# EAGLE library part TPS5450DDA (library powerboard)
5-A, WIDE INPUT RANGE, STEP-DOWN SWIFT CONVERTER
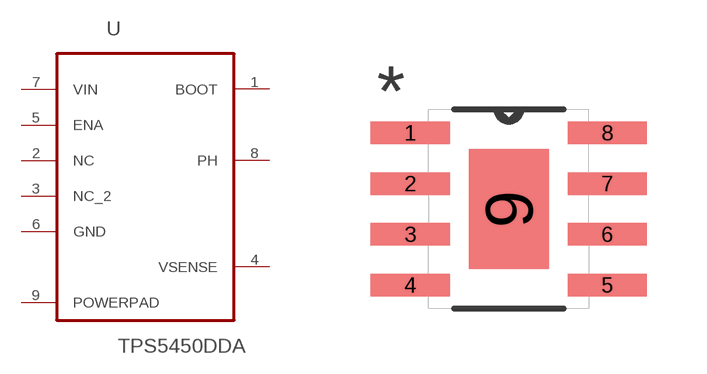
[diagram p2: symbol with the pads of SOIC127P600X170-9N; footprint SOIC127P600X170-9N]

Designator prefix U

## TPS5450DDA (MPN: TPS5450DDA; OC_FARNELL: 1564960; OC_NEWARK: 37M0059; PACKAGE: SOIC-8; SUPPLIER: TEXAS INSTRUMENTS)  [SOIC127P600X170-9N]
1  BOOT  in
2  NC  nc
3  NC_2  nc
4  VSENSE  in
5  ENA  in
6  GND  pas
7  VIN  pwr
8  PH  out
9  POWERPAD  pas

## Footprint SOIC127P600X170-9N (pad centres in mm)
smd 1.981 x 0.559: 1 -2.464,1.905; 2 -2.464,0.635; 3 -2.464,-0.635; 4 -2.464,-1.905; 5 2.464,-1.905; 6 2.464,-0.635; 7 2.464,0.635; 8 2.464,1.905
smd 2.007 x 2.997: 9 0,0